# Altium schematic symbol library gpsneo6m.SchLib: 1 symbol
Pins are listed as number, name and electrical type; pins without a type are passive.

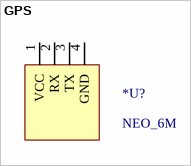
[diagram p0: symbol GPS]

## GPS
designator *U?, comment NEO_6M
pins: 1 VCC, 2 RX, 3 TX, 4 GND